# EAGLE library part WM_JDY-10_STANDING (library parts_v26_edits)
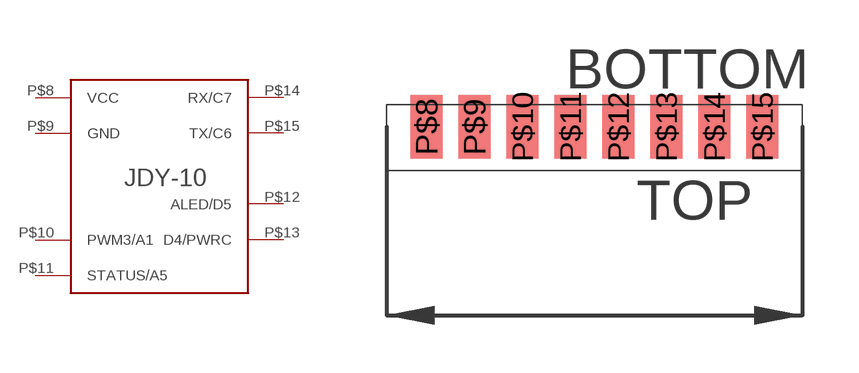
[diagram p1: symbol with the pads of JDY-10_STANDING; footprint JDY-10_STANDING]

Designator prefix -

## WM_JDY-10_STANDING (ALED: MESH working instruction pin flashes once per second and outputs 100MS high level.; STAT: Unconnected low level, post connection high level)  [JDY-10_STANDING]
P$8  VCC
P$9  GND
P$10  PWM3/A1
P$11  STATUS/A5
P$12  ALED/D5
P$13  D4/PWRC
P$14  RX/C7
P$15  TX/C6

## Footprint JDY-10_STANDING (pad centres in mm)
smd 1 x 2: P$8 1.25,0; P$9 2.75,0; P$10 4.25,0; P$11 5.75,0; P$12 7.25,0; P$13 8.75,0; P$14 10.25,0; P$15 11.75,0